# Altium footprint library Networks THD.PcbLib: 14 footprints
Each footprint in its own frame and in the unit in brackets; x right, y up, seen from the top. Pads: shape width x height; smd on the part's side, far side on the other; paste and mask are expansions set on the pad; w line width, h text height; cw(c..) or ccw(c..) is an arc to the next point about the centre after c.
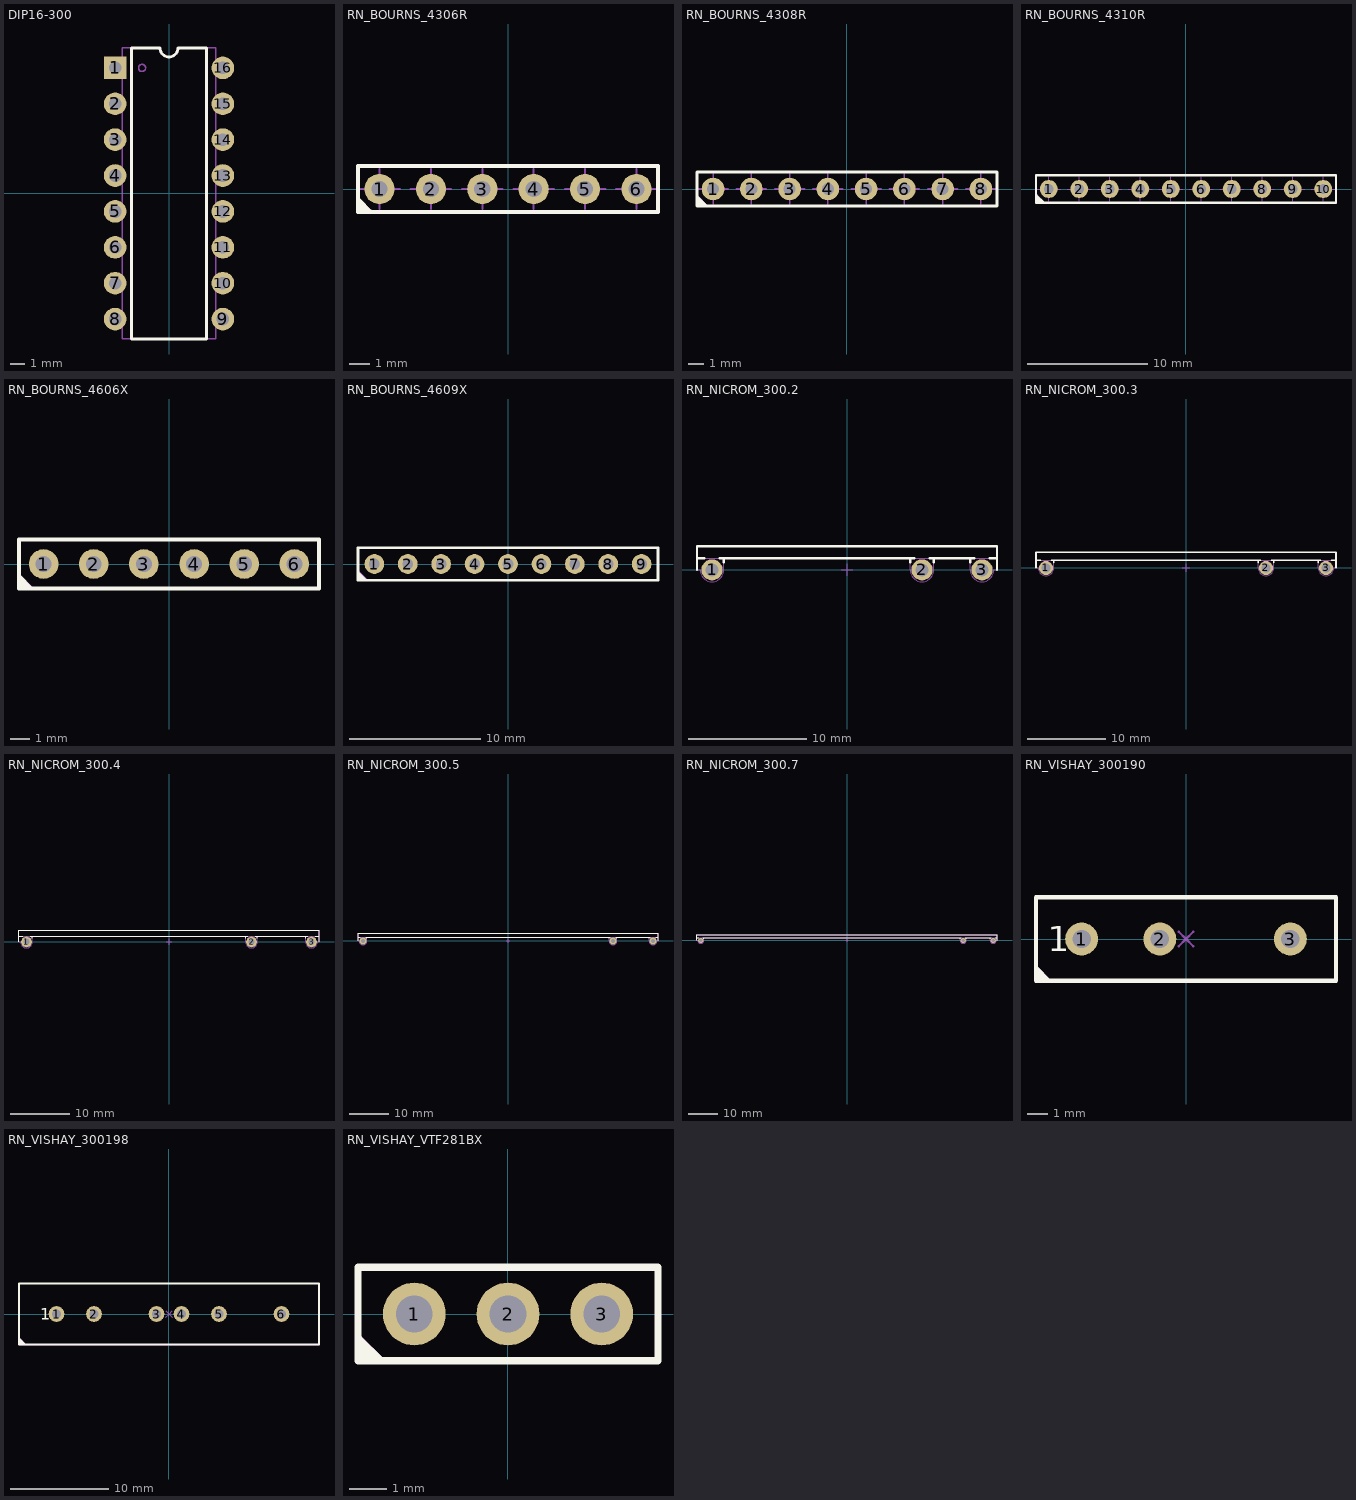
[diagram p0: the footprints below, top view; thin cyan lines are the x and y axes]

## DIP16-300 [mm] "DIP 16 Leads, Row Spacing 7.62 mm; Pitch 2.54 mm"
height 5.08
pads (16):
  rect 1.6x1.6 hole 0.9: 1(-3.81,8.89)
  round 1.6 hole 0.9: 2(-3.81,6.35) 3(-3.81,3.81) 4(-3.81,1.27) 5(-3.81,-1.27) 6(-3.81,-3.81) 7(-3.81,-6.35) 8(-3.81,-8.89) 9(3.81,-8.89) 10(3.81,-6.35) 11(3.81,-3.81) 12(3.81,-1.27) 13(3.81,1.27) 14(3.81,3.81) 15(3.81,6.35) 16(3.81,8.89)
Top Overlay:
  lines w0.2: -2.65,-10.3 -2.65,10.3 -0.635,10.3 ccw(c0,10.3) 0.635,10.3 2.65,10.3 2.65,-10.3 -2.65,-10.3
Mechanical 14:
  circle w0.1: c-1.905,8.89 r0.254
  lines w0.1: -3.3,-10.3 3.3,-10.3 3.3,10.3 0.6,10.3 cw(c-0.035,10.3) -0.67,10.3 -3.3,10.3 -3.3,-10.3
3D body "DIP16-300.stp": height 5.33, standoff -3.3, extent -3.935,-10.16 3.935,10.16

## RN_BOURNS_4306R [mm] "SIP-6 Resistor Network, Body 14.83 x 2.16mm, Bourns Serie 4300R"
height 4.95
pads (6):
  round 1.5 hole 0.8: 1(-6.35,0) 2(-3.81,0) 3(-1.27,0) 4(1.27,0) 5(3.81,0) 6(6.35,0)
Top Overlay:
  lines w0.2: -7.4,-0.975 -7.25,-1.125 ; -7.4,-0.825 -7.1,-1.125 ; -7.4,-0.7 -6.975,-1.125 ; -7.4,-0.525 -6.8,-1.125 ; -7.415,-1.13 -7.415,1.13 7.415,1.13 7.415,-1.13 -7.415,-1.13
Mechanical 8:
  lines w0.1: -7.35,0 -6.35,0 ; -6.35,-1 -6.35,0 ; -6.35,1 -6.35,0 ; -5.35,0 -6.35,0 ; -4.81,0 -3.81,0 ; -3.81,-1 -3.81,0 ; -3.81,1 -3.81,0 ; -2.81,0 -3.81,0 ; -2.27,0 -1.27,0 ; -1.27,-1 -1.27,0 ; -1.27,1 -1.27,0 ; -0.27,0 -1.27,0 ; 0.27,0 1.27,0 ; 1.27,-1 1.27,0 ; 1.27,1 1.27,0 ; 2.27,0 1.27,0 ; 2.81,0 3.81,0 ; 3.81,-1 3.81,0 ; 3.81,1 3.81,0 ; 4.81,0 3.81,0 ; 5.35,0 6.35,0 ; 6.35,-1 6.35,0 ; 6.35,1 6.35,0 ; 7.35,0 6.35,0
Mechanical 14:
  lines w0.1: -7.4,-1.05 -7.325,-1.125 ; -7.4,-0.95 -7.225,-1.125 ; -7.4,-0.875 -7.15,-1.125 ; -7.4,-0.8 -7.075,-1.125 ; -7.4,-0.725 -7,-1.125 ; -7.4,-0.65 -6.925,-1.125 ; -7.4,-0.575 -6.85,-1.125 ; -7.4,-0.45 -6.725,-1.125 ; -7.415,-1.13 -7.415,1.13 7.415,1.13 7.415,-1.13 -7.415,-1.13
3D body "RN_BOURNS_4306R.stp": height 4.95, standoff -3.79, extent -7.415,-1.13 7.415,1.13

## RN_BOURNS_4308R [mm] "SIP-8 Resistor Network, Body 19.92x 2.16mm, Bourns Serie 4300R"
height 4.95
pads (8):
  round 1.5 hole 0.8: 1(-8.89,0) 2(-6.35,0) 3(-3.81,0) 4(-1.27,0) 5(1.27,0) 6(3.81,0) 7(6.35,0) 8(8.89,0)
Top Overlay:
  lines w0.2: -9.94,-0.975 -9.79,-1.125 ; -9.94,-0.825 -9.64,-1.125 ; -9.94,-0.7 -9.515,-1.125 ; -9.94,-0.525 -9.34,-1.125 ; -9.955,-1.13 -9.955,1.13 9.955,1.13 9.955,-1.13 -9.955,-1.13
Mechanical 8:
  lines w0.1: -9.89,0 -8.89,0 ; -8.89,-1 -8.89,0 ; -8.89,1 -8.89,0 ; -7.89,0 -8.89,0 ; -7.35,0 -6.35,0 ; -6.35,-1 -6.35,0 ; -6.35,1 -6.35,0 ; -5.35,0 -6.35,0 ; -4.81,0 -3.81,0 ; -3.81,-1 -3.81,0 ; -3.81,1 -3.81,0 ; -2.81,0 -3.81,0 ; -2.27,0 -1.27,0 ; -1.27,-1 -1.27,0 ; -1.27,1 -1.27,0 ; -0.27,0 -1.27,0 ; 0.27,0 1.27,0 ; 1.27,-1 1.27,0 ; 1.27,1 1.27,0 ; 2.27,0 1.27,0 ; 2.81,0 3.81,0 ; 3.81,-1 3.81,0 ; 3.81,1 3.81,0 ; 4.81,0 3.81,0 ; 5.35,0 6.35,0 ; 6.35,-1 6.35,0 ; 6.35,1 6.35,0 ; 7.35,0 6.35,0 ; 7.89,0 8.89,0 ; 8.89,-1 8.89,0 ; 8.89,1 8.89,0 ; 9.89,0 8.89,0
Mechanical 14:
  lines w0.1: -9.94,-1.05 -9.865,-1.125 ; -9.94,-0.95 -9.765,-1.125 ; -9.94,-0.875 -9.69,-1.125 ; -9.94,-0.8 -9.615,-1.125 ; -9.94,-0.725 -9.54,-1.125 ; -9.94,-0.65 -9.465,-1.125 ; -9.94,-0.575 -9.39,-1.125 ; -9.94,-0.45 -9.265,-1.125 ; -9.955,-1.13 -9.955,1.13 9.955,1.13 9.955,-1.13 -9.955,-1.13
3D body "RN_BOURNS_4308R.stp": height 4.95, standoff -3.79, extent -9.955,-1.13 9.955,1.13

## RN_BOURNS_4310R [mm] "SIP-10 Resistor Network, Body 24.99x 2.16mm, Bourns Serie 4300R"
height 4.95
pads (10):
  round 1.5 hole 0.8: 1(-11.43,0) 2(-8.89,0) 3(-6.35,0) 4(-3.81,0) 5(-1.27,0) 6(1.27,0) 7(3.81,0) 8(6.35,0) 9(8.89,0) 10(11.43,0)
Top Overlay:
  lines w0.2: -12.48,-0.975 -12.33,-1.125 ; -12.48,-0.825 -12.18,-1.125 ; -12.48,-0.7 -12.055,-1.125 ; -12.48,-0.525 -11.88,-1.125 ; -12.495,-1.13 -12.495,1.13 12.495,1.13 12.495,-1.13 -12.495,-1.13
Mechanical 8:
  lines w0.1: -12.43,0 -11.43,0 ; -11.43,-1 -11.43,0 ; -11.43,1 -11.43,0 ; -10.43,0 -11.43,0 ; -9.89,0 -8.89,0 ; -8.89,-1 -8.89,0 ; -8.89,1 -8.89,0 ; -7.89,0 -8.89,0 ; -7.35,0 -6.35,0 ; -6.35,-1 -6.35,0 ; -6.35,1 -6.35,0 ; -5.35,0 -6.35,0 ; -4.81,0 -3.81,0 ; -3.81,-1 -3.81,0 ; -3.81,1 -3.81,0 ; -2.81,0 -3.81,0 ; -2.27,0 -1.27,0 ; -1.27,-1 -1.27,0 ; -1.27,1 -1.27,0 ; -0.27,0 -1.27,0 ; 0.27,0 1.27,0 ; 1.27,-1 1.27,0 ; 1.27,1 1.27,0 ; 2.27,0 1.27,0 ; 2.81,0 3.81,0 ; 3.81,-1 3.81,0 ; 3.81,1 3.81,0 ; 4.81,0 3.81,0 ; 5.35,0 6.35,0 ; 6.35,-1 6.35,0 ; 6.35,1 6.35,0 ; 7.35,0 6.35,0 ; 7.89,0 8.89,0 ; 8.89,-1 8.89,0 ; 8.89,1 8.89,0 ; 9.89,0 8.89,0 ; 10.43,0 11.43,0 ; 11.43,-1 11.43,0 ; 11.43,1 11.43,0 ; 12.43,0 11.43,0
Mechanical 14:
  lines w0.1: -12.48,-1.05 -12.405,-1.125 ; -12.48,-0.95 -12.305,-1.125 ; -12.48,-0.875 -12.23,-1.125 ; -12.48,-0.8 -12.155,-1.125 ; -12.48,-0.725 -12.08,-1.125 ; -12.48,-0.65 -12.005,-1.125 ; -12.48,-0.575 -11.93,-1.125 ; -12.48,-0.45 -11.805,-1.125 ; 12.495,-1.13 12.495,1.13 ; 12.495,-1.13 -12.495,-1.13 -12.495,1.13 12.495,1.13 ; 12.495,-1.13 12.495,1.13
3D body "RN_BOURNS_4310R.stp": height 4.95, standoff -3.79, extent -12.495,-1.13 12.495,1.13

## RN_BOURNS_4606X [mm] "SIP-6 Resistor Network, Body 15.19x 2.49mm, Bourns Serie 4600X"
height 5.08
pads (6):
  round 1.5 hole 0.8: 1(-6.35,0) 2(-3.81,0) 3(-1.27,0) 4(1.27,0) 5(3.81,0) 6(6.35,0)
Top Overlay:
  lines w0.2: -7.58,-1.09 -7.43,-1.24 ; -7.58,-0.94 -7.28,-1.24 ; -7.58,-0.815 -7.155,-1.24 ; -7.58,-0.64 -6.98,-1.24 ; -7.595,-1.245 -7.595,1.245 7.595,1.245 7.595,-1.245 -7.595,-1.245
Mechanical 8:
  lines w0.127: -6.85,0 -6.35,0 ; -6.35,-0.5 -6.35,0 ; -6.35,0.5 -6.35,0 ; -5.85,0 -6.35,0 ; -4.31,0 -3.81,0 ; -3.81,-0.5 -3.81,0 ; -3.81,0.5 -3.81,0 ; -3.31,0 -3.81,0 ; -1.77,0 -1.27,0 ; -1.27,-0.5 -1.27,0 ; -1.27,0.5 -1.27,0 ; -0.77,0 -1.27,0 ; 0.77,0 1.27,0 ; 1.27,-0.5 1.27,0 ; 1.27,0.5 1.27,0 ; 1.77,0 1.27,0 ; 3.31,0 3.81,0 ; 3.81,-0.5 3.81,0 ; 3.81,0.5 3.81,0 ; 4.31,0 3.81,0 ; 5.85,0 6.35,0 ; 6.35,-0.5 6.35,0 ; 6.35,0.5 6.35,0 ; 6.85,0 6.35,0
Mechanical 14:
  lines w0.1: -7.58,-1.165 -7.505,-1.24 ; -7.58,-1.065 -7.405,-1.24 ; -7.58,-0.99 -7.33,-1.24 ; -7.58,-0.915 -7.255,-1.24 ; -7.58,-0.84 -7.18,-1.24 ; -7.58,-0.765 -7.105,-1.24 ; -7.58,-0.69 -7.03,-1.24 ; -7.58,-0.565 -6.905,-1.24 ; -7.595,-1.245 -7.595,1.245 7.595,1.245 7.595,-1.245 -7.595,-1.245
3D body "RN_BOURNS_4606X.stp": height 5.08, standoff -3.43, extent -7.595,-1.245 7.595,1.245

## RN_BOURNS_4609X [mm] "SIP-9 Resistor Network, Body 22.81x 2.49mm, Bourns Serie 4600X"
height 5.08
pads (9):
  round 1.5 hole 0.8: 1(-10.16,0) 2(-7.62,0) 3(-5.08,0) 4(-2.54,0) 5(0,0) 6(2.54,0) 7(5.08,0) 8(7.62,0) 9(10.16,0)
Top Overlay:
  lines w0.2: -11.39,-1.09 -11.24,-1.24 ; -11.39,-0.94 -11.09,-1.24 ; -11.39,-0.815 -10.965,-1.24 ; -11.39,-0.64 -10.79,-1.24 ; -11.405,-1.245 -11.405,1.245 11.405,1.245 11.405,-1.245 -11.405,-1.245
Mechanical 8:
  lines w0.127: -10.66,0 -10.16,0 ; -10.16,-0.5 -10.16,0 ; -10.16,0.5 -10.16,0 ; -9.66,0 -10.16,0 ; -8.12,0 -7.62,0 ; -7.62,-0.5 -7.62,0 ; -7.62,0.5 -7.62,0 ; -7.12,0 -7.62,0 ; -5.58,0 -5.08,0 ; -5.08,-0.5 -5.08,0 ; -5.08,0.5 -5.08,0 ; -4.58,0 -5.08,0 ; -3.04,0 -2.54,0 ; -2.54,-0.5 -2.54,0 ; -2.54,0.5 -2.54,0 ; -2.04,0 -2.54,0 ; -0.5,0 0,0 ; 0,-0.5 0,0 ; 0,0.5 0,0 ; 0.5,0 0,0 ; 2.04,0 2.54,0 ; 2.54,-0.5 2.54,0 ; 2.54,0.5 2.54,0 ; 3.04,0 2.54,0 ; 4.58,0 5.08,0 ; 5.08,-0.5 5.08,0 ; 5.08,0.5 5.08,0 ; 5.58,0 5.08,0 ; 7.12,0 7.62,0 ; 7.62,-0.5 7.62,0 ; 7.62,0.5 7.62,0 ; 8.12,0 7.62,0 ; 9.66,0 10.16,0 ; 10.16,-0.5 10.16,0 ; 10.16,0.5 10.16,0 ; 10.66,0 10.16,0
Mechanical 14:
  lines w0.1: -11.39,-1.165 -11.315,-1.24 ; -11.39,-1.065 -11.215,-1.24 ; -11.39,-0.99 -11.14,-1.24 ; -11.39,-0.915 -11.065,-1.24 ; -11.39,-0.84 -10.99,-1.24 ; -11.39,-0.765 -10.915,-1.24 ; -11.39,-0.69 -10.84,-1.24 ; -11.39,-0.565 -10.715,-1.24 ; -11.405,-1.245 -11.405,1.245 11.405,1.245 11.405,-1.245 -11.405,-1.245
3D body "RN_BOURNS_4600X.stp": height 5.08, standoff -3.43, extent -11.405,-1.245 11.405,1.245

## RN_NICROM_300.2 [mm] "High Voltage Divider NICROM 300.2"
height 7.62
pads (3):
  round 1.8 hole 1.1: 1(-11.43,0) 2(6.35,0) 3(11.43,0)
Top Overlay:
  lines w0.2: -12.7,0 -12.7,1 ; -12.093,1 -12.7,1 ; -10.767,1 5.687,1 ; -10.43,0.663 -10.43,1 ; 5.35,0.663 5.35,1 ; 7.013,1 10.767,1 ; 7.35,0.663 7.35,1 ; 10.43,0.663 10.43,1 ; 12.093,1 12.7,1 ; 12.7,0 12.7,1 ; -12.7,1 -12.7,2 ; -12.7,1 -12.7,2 ; -12.7,2 12.7,2 12.7,1
Mechanical 8:
  lines w0.1: -11.93,0 -11.43,0 ; -11.43,-0.5 -11.43,0 ; -11.43,0.5 -11.43,0 ; -10.93,0 -11.43,0 ; -0.5,0 0,0 ; 0,-0.5 0,0 ; 0,0.5 0,0 ; 0.5,0 0,0 ; 5.85,0 6.35,0 ; 6.35,-0.5 6.35,0 ; 6.35,0.5 6.35,0 ; 6.85,0 6.35,0 ; 10.93,0 11.43,0 ; 11.43,-0.5 11.43,0 ; 11.43,0.5 11.43,0 ; 11.93,0 11.43,0
Mechanical 14:
  lines w0.1: -10.43,1 -10.43,0 cw(c-11.43,0) -12.43,0 ; 5.35,1 5.35,0 ccw(c6.35,0) 7.35,0 7.35,1 ; 10.43,1 10.43,0 ccw(c11.43,0) 12.43,0 12.7,0 12.7,1 ; -12.7,0 -12.43,0 ; -12.7,0 -12.7,1 ; -12.7,0 -12.43,0 ; -12.7,1 -12.7,2 12.7,2 12.7,1 ; -12.7,1 12.7,1
3D body "RES_NICROM_300.2.stp": height 12.62, standoff -3.6, extent -12.7,-1 12.7,2

## RN_NICROM_300.3 [mm] "High Voltage Divider NICROM 300.3"
height 12.7
pads (3):
  round 1.8 hole 1.1: 1(-17.78,0) 2(10.16,0) 3(17.78,0)
Top Overlay:
  lines w0.2: -19.05,0 -19.05,1 ; -18.443,1 -19.05,1 ; -17.117,1 9.497,1 ; -16.78,0.663 -16.78,1 ; 9.16,0.663 9.16,1 ; 10.823,1 17.117,1 ; 11.16,0.663 11.16,1 ; 16.78,0.663 16.78,1 ; 18.443,1 19.05,1 ; 19.05,0 19.05,1 ; -19.05,1 -19.05,2 ; -19.05,1 -19.05,2 ; -19.05,2 19.05,2 19.05,1
Mechanical 8:
  lines w0.1: -18.28,0 -17.78,0 ; -17.78,-0.5 -17.78,0 ; -17.78,0.5 -17.78,0 ; -17.28,0 -17.78,0 ; -0.5,0 0,0 ; 0,-0.5 0,0 ; 0,0.5 0,0 ; 0.5,0 0,0 ; 9.66,0 10.16,0 ; 10.16,-0.5 10.16,0 ; 10.16,0.5 10.16,0 ; 10.66,0 10.16,0 ; 17.28,0 17.78,0 ; 17.78,-0.5 17.78,0 ; 17.78,0.5 17.78,0 ; 18.28,0 17.78,0
Mechanical 14:
  lines w0.1: -16.78,1 -16.78,0 cw(c-17.78,0) -18.78,0 ; 9.16,1 9.16,0 ccw(c10.16,0) 11.16,0 11.16,1 ; 16.78,1 16.78,0 ccw(c17.78,0) 18.78,0 19.05,0 19.05,1 ; -19.05,0 -18.78,0 ; -19.05,0 -19.05,1 ; -19.05,0 -18.78,0 ; -19.05,1 -19.05,2 ; -19.05,1 -19.05,2 ; -19.05,1 19.05,1 ; -19.05,2 19.05,2 ; 19.05,1 19.05,2 ; 19.05,1 19.05,2
3D body "RES_NICROM_300.3.stp": height 17.7, standoff -3.6, extent -19.05,-1 19.05,2

## RN_NICROM_300.4 [mm] "High Voltage Divider NICROM 300.4"
height 15.24
pads (3):
  round 1.8 hole 1.1: 1(-24.13,0) 2(13.97,0) 3(24.13,0)
Top Overlay:
  lines w0.2: -25.4,0 -25.4,1 ; -24.793,1 -25.4,1 ; -23.467,1 13.307,1 ; -23.13,0.663 -23.13,1 ; 12.97,0.663 12.97,1 ; 14.633,1 23.467,1 ; 14.97,0.663 14.97,1 ; 23.13,0.663 23.13,1 ; 24.793,1 25.4,1 ; 25.4,0 25.4,1 ; -25.4,1 -25.4,2 ; -25.4,1 -25.4,2 ; -25.4,2 25.4,2 25.4,1
Mechanical 8:
  lines w0.1: -24.63,0 -24.13,0 ; -24.13,-0.5 -24.13,0 ; -24.13,0.5 -24.13,0 ; -23.63,0 -24.13,0 ; -0.5,0 0,0 ; 0,-0.5 0,0 ; 0,0.5 0,0 ; 0.5,0 0,0 ; 13.47,0 13.97,0 ; 13.97,-0.5 13.97,0 ; 13.97,0.5 13.97,0 ; 14.47,0 13.97,0 ; 23.63,0 24.13,0 ; 24.13,-0.5 24.13,0 ; 24.13,0.5 24.13,0 ; 24.63,0 24.13,0
Mechanical 14:
  lines w0.1: -23.13,1 -23.13,0 cw(c-24.13,0) -25.13,0 ; 12.97,1 12.97,0 ccw(c13.97,0) 14.97,0 14.97,1 ; 23.13,1 23.13,0 ccw(c24.13,0) 25.13,0 25.4,0 25.4,1 ; -25.4,0 -25.13,0 ; -25.4,0 -25.4,1 ; -25.4,0 -25.13,0 ; -25.4,1 25.4,1 ; -25.4,1 -25.4,2 ; -25.4,1 -25.4,2 ; -25.4,2 25.4,2 ; 25.4,1 25.4,2 ; 25.4,1 25.4,2
3D body "RES_NICROM_300.4.stp": height 20.24, standoff -3.6, extent -25.4,-1 25.4,2

## RN_NICROM_300.5 [mm] "High Voltage Divider NICROM 300.5"
height 15.24
pads (3):
  round 1.8 hole 1.1: 1(-36.83,0) 2(26.67,0) 3(36.83,0)
Top Overlay:
  lines w0.2: -38.1,0 -38.1,1 ; -37.493,1 -38.1,1 ; -36.167,1 26.007,1 ; -35.83,0.663 -35.83,1 ; 25.67,0.663 25.67,1 ; 27.333,1 36.167,1 ; 27.67,0.663 27.67,1 ; 35.83,0.663 35.83,1 ; 37.493,1 38.1,1 ; 38.1,0 38.1,1 ; -38.1,1 -38.1,2 ; -38.1,1 -38.1,2 ; -38.1,2 38.1,2 38.1,1
Mechanical 8:
  lines w0.1: -37.33,0 -36.83,0 ; -36.83,-0.5 -36.83,0 ; -36.83,0.5 -36.83,0 ; -36.33,0 -36.83,0 ; -0.5,0 0,0 ; 0,-0.5 0,0 ; 0,0.5 0,0 ; 0.5,0 0,0 ; 26.17,0 26.67,0 ; 26.67,-0.5 26.67,0 ; 26.67,0.5 26.67,0 ; 27.17,0 26.67,0 ; 36.33,0 36.83,0 ; 36.83,-0.5 36.83,0 ; 36.83,0.5 36.83,0 ; 37.33,0 36.83,0
Mechanical 14:
  lines w0.1: -35.83,1 -35.83,0 cw(c-36.83,0) -37.83,0 ; 25.67,1 25.67,0 ccw(c26.67,0) 27.67,0 27.67,1 ; 35.83,1 35.83,0 ccw(c36.83,0) 37.83,0 38.1,0 38.1,1 ; -38.1,0 -37.83,0 ; -38.1,0 -38.1,1 ; -38.1,0 -37.83,0 ; -38.1,1 -38.1,2 ; -38.1,1 -38.1,2 ; -38.1,1 38.1,1 ; -38.1,2 38.1,2 ; 38.1,1 38.1,2 ; 38.1,1 38.1,2
3D body "RES_NICROM_300.5.stp": height 20.24, standoff -3.6, extent -38.1,-1 38.1,2

## RN_NICROM_300.7 [mm] "High Voltage Divider NICROM 300.7"
height 15.24
pads (3):
  round 1.8 hole 1.1: 1(-49.53,0) 2(39.37,0) 3(49.53,0)
Top Overlay:
  lines w0.2: -50.8,0 -50.8,1 ; -50.193,1 -50.8,1 ; -48.867,1 38.707,1 ; -48.53,0.663 -48.53,1 ; 38.37,0.663 38.37,1 ; 40.033,1 48.867,1 ; 40.37,0.663 40.37,1 ; 48.53,0.663 48.53,1 ; 50.193,1 50.8,1 ; 50.8,0 50.8,1 ; -50.8,1 -50.8,2 ; -50.8,1 -50.8,2 ; -50.8,2 50.8,2 50.8,1
Mechanical 8:
  lines w0.1: -50.03,0 -49.53,0 ; -49.53,-0.5 -49.53,0 ; -49.53,0.5 -49.53,0 ; -49.03,0 -49.53,0 ; -0.5,0 0,0 ; 0,-0.5 0,0 ; 0,0.5 0,0 ; 0.5,0 0,0 ; 38.87,0 39.37,0 ; 39.37,-0.5 39.37,0 ; 39.37,0.5 39.37,0 ; 39.87,0 39.37,0 ; 49.03,0 49.53,0 ; 49.53,-0.5 49.53,0 ; 49.53,0.5 49.53,0 ; 50.03,0 49.53,0
Mechanical 14:
  lines w0.1: -48.53,1 -48.53,0 cw(c-49.53,0) -50.53,0 ; 38.37,1 38.37,0 ccw(c39.37,0) 40.37,0 40.37,1 ; 48.53,1 48.53,0 ccw(c49.53,0) 50.53,0 50.8,0 50.8,1 ; -50.8,0 -50.53,0 ; -50.8,0 -50.8,1 ; -50.8,0 -50.53,0 ; -50.8,1 50.8,1 ; -50.8,1 -50.8,2 ; -50.8,1 -50.8,2 ; -50.8,2 50.8,2 ; 50.8,1 50.8,2 ; 50.8,1 50.8,2
3D body "RES_NICROM_300.7.stp": height 20.24, standoff -3.6, extent -50.8,-1 50.8,2

## RN_VISHAY_300190 [mm] "Resistor, Radial, Pad spacing 3.81, 6.35mm - Body 14.605mm x 4.06mm"
height 10.49
pads (3):
  round 1.6 hole 0.9: 1(-5.08,0) 2(-1.27,0) 3(5.08,0)
Top Overlay:
  lines w0.2: -7.285,-1.875 -7.135,-2.025 ; -7.285,-1.725 -6.985,-2.025 ; -7.285,-1.6 -6.86,-2.025 ; -7.285,-1.425 -6.685,-2.025 ; -7.3,-2.03 7.3,-2.03 7.3,2.03 -7.3,2.03 -7.3,-2.03
  text "1" at -6.74,-0.59 h1.2
Mechanical 8:
  lines w0.1: -5.58,0 -5.08,0 ; -5.08,-0.5 -5.08,0 ; -5.08,0.5 -5.08,0 ; -4.58,0 -5.08,0 ; -1.77,0 -1.27,0 ; -1.27,-0.5 -1.27,0 ; -1.27,0.5 -1.27,0 ; -0.77,0 -1.27,0 ; -0.354,-0.354 0,0 ; -0.354,0.354 0,0 ; 0.354,-0.354 0,0 ; 0.354,0.354 0,0 ; 4.58,0 5.08,0 ; 5.08,-0.5 5.08,0 ; 5.08,0.5 5.08,0 ; 5.58,0 5.08,0
Mechanical 14:
  lines w0.1: -7.285,-1.95 -7.21,-2.025 ; -7.285,-1.85 -7.11,-2.025 ; -7.285,-1.775 -7.035,-2.025 ; -7.285,-1.7 -6.96,-2.025 ; -7.285,-1.625 -6.885,-2.025 ; -7.285,-1.55 -6.81,-2.025 ; -7.285,-1.475 -6.735,-2.025 ; -7.285,-1.35 -6.61,-2.025 ; -7.3,-2.03 7.3,-2.03 7.3,2.03 -7.3,2.03 -7.3,-2.03
  text "1" at -6.74,-0.59 h1.2
3D body "RES_VISHAY_300190.stp": height 10.49, standoff -3.2, extent -7.3,-2.03 7.3,2.03

## RN_VISHAY_300198 [mm] "Resistor, Radial, Pad spacing 3.81, 6.35, 2.54mm - Body 30.48mm x 6.223mm"
height 10.49
pads (6):
  round 1.6 hole 0.9: 1(-11.43,0) 2(-7.62,0) 3(-1.27,0) 4(1.27,0) 5(5.08,0) 6(11.43,0)
Top Overlay:
  lines w0.2: -15.225,-2.956 -15.075,-3.106 ; -15.225,-2.806 -14.925,-3.106 ; -15.225,-2.681 -14.8,-3.106 ; -15.225,-2.506 -14.625,-3.106 ; -15.24,-3.112 15.24,-3.112 15.24,3.112 -15.24,3.112 -15.24,-3.112
  text "1" at -13.09,-0.59 h1.2
Mechanical 8:
  lines w0.1: -11.93,0 -11.43,0 ; -11.43,-0.5 -11.43,0 ; -11.43,0.5 -11.43,0 ; -10.93,0 -11.43,0 ; -8.12,0 -7.62,0 ; -7.62,-0.5 -7.62,0 ; -7.62,0.5 -7.62,0 ; -7.12,0 -7.62,0 ; -1.77,0 -1.27,0 ; -1.27,-0.5 -1.27,0 ; -1.27,0.5 -1.27,0 ; -0.77,0 -1.27,0 ; -0.354,-0.354 0,0 ; -0.354,0.354 0,0 ; 0.354,-0.354 0,0 ; 0.354,0.354 0,0 ; 0.77,0 1.27,0 ; 1.27,-0.5 1.27,0 ; 1.27,0.5 1.27,0 ; 1.77,0 1.27,0 ; 4.58,0 5.08,0 ; 5.08,-0.5 5.08,0 ; 5.08,0.5 5.08,0 ; 5.58,0 5.08,0 ; 10.93,0 11.43,0 ; 11.43,-0.5 11.43,0 ; 11.43,0.5 11.43,0 ; 11.93,0 11.43,0
Mechanical 14:
  lines w0.1: -15.225,-3.031 -15.15,-3.106 ; -15.225,-2.931 -15.05,-3.106 ; -15.225,-2.856 -14.975,-3.106 ; -15.225,-2.781 -14.9,-3.106 ; -15.225,-2.706 -14.825,-3.106 ; -15.225,-2.631 -14.75,-3.106 ; -15.225,-2.556 -14.675,-3.106 ; -15.225,-2.431 -14.55,-3.106 ; -15.24,-3.112 -15.24,3.112 15.24,3.112 15.24,-3.112 -15.24,-3.112
  text "1" at -13.09,-0.59 h1.2
3D body "RN_VISHAY_300198.stp": height 10.49, standoff -3.2, extent -15.24,-3.111 15.24,3.112

## RN_VISHAY_VTF281BX [mm] "SIL 3 Pin Resistor Network, Body 8.13x 2.54mm, VISHAY Series VTF"
height 9.19
pads (3):
  round 1.7 hole 1: 1(-2.54,0) 2(0,0) 3(2.54,0)
Top Overlay:
  lines w0.2: -4.05,-1.115 -3.9,-1.265 ; -4.05,-0.965 -3.75,-1.265 ; -4.05,-0.84 -3.625,-1.265 ; -4.05,-0.665 -3.45,-1.265 ; -4.065,-1.27 4.065,-1.27 4.065,1.27 -4.065,1.27 -4.065,-1.27
Mechanical 8:
  lines w0.1: -3.04,0 -2.54,0 ; -2.54,-0.5 -2.54,0 ; -2.54,0.5 -2.54,0 ; -2.04,0 -2.54,0 ; -0.5,0 0,0 ; 0,-0.5 0,0 ; 0,0.5 0,0 ; 0.5,0 0,0 ; 2.04,0 2.54,0 ; 2.54,-0.5 2.54,0 ; 2.54,0.5 2.54,0 ; 3.04,0 2.54,0
Mechanical 14:
  lines w0.1: -4.05,-1.19 -3.975,-1.265 ; -4.05,-1.09 -3.875,-1.265 ; -4.05,-1.015 -3.8,-1.265 ; -4.05,-0.94 -3.725,-1.265 ; -4.05,-0.865 -3.65,-1.265 ; -4.05,-0.79 -3.575,-1.265 ; -4.05,-0.715 -3.5,-1.265 ; -4.05,-0.59 -3.375,-1.265 ; -4.065,-1.27 4.065,-1.27 4.065,1.27 -4.065,1.27 -4.065,-1.27
3D body "RN_VISHAY_VTF281BX.stp": height 9.19, standoff -3.17, extent -4.065,-1.27 4.065,1.27